# Altium footprint library Skyworks.PcbLib: 6 footprints
Each footprint in its own frame and in the unit in brackets; x right, y up, seen from the top. Pads: shape width x height; smd on the part's side, far side on the other; paste and mask are expansions set on the pad; w line width, h text height; cw(c..) or ccw(c..) is an arc to the next point about the centre after c.
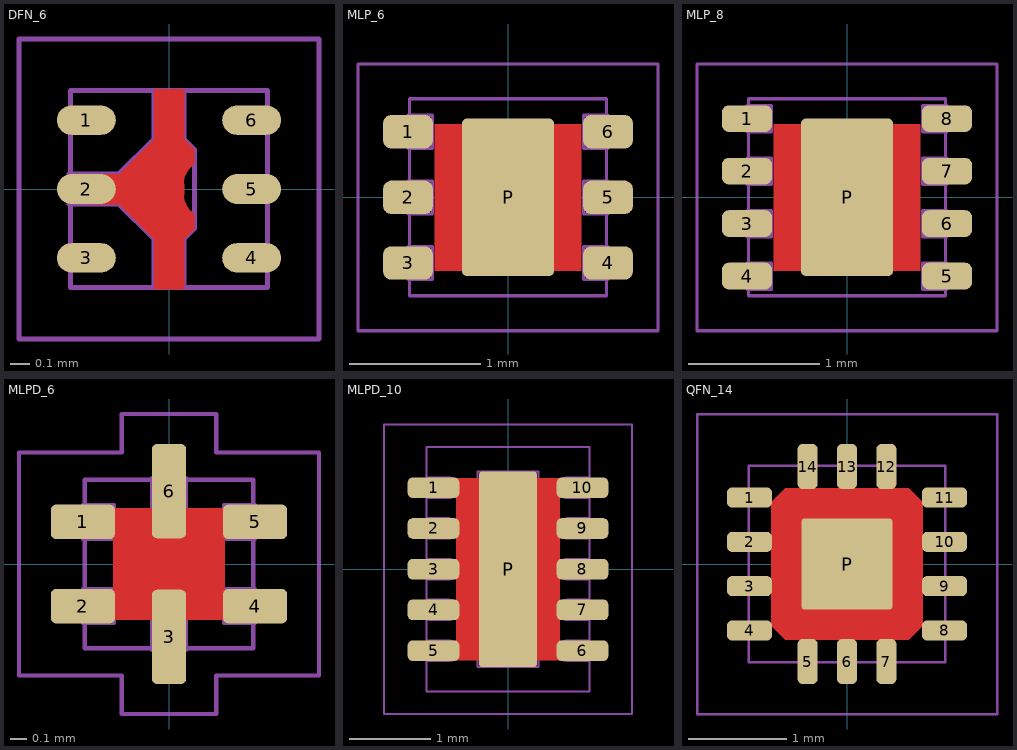
[diagram p0: the footprints below, top view; thin cyan lines are the x and y axes]

## DFN_6 [mm]
pads (6):
  oval 0.3x0.15 smd paste+0 mask+0.038: 1(-0.42,0.35) 3(-0.42,-0.35) 4(0.42,-0.35) 6(0.42,0.35)
  oval 0.3x0.152 smd paste+0 mask+0.038: 2(-0.42,0) 5(0.42,0)
Top Layer:
  region: 0.076,0.508 0.076,0.254 0.127,0.203 0.127,0.127 0.102,0.102 0.095,0.093 0.085,0.076 0.079,0.056 0.076,0.036 0.076,0.025 0.076,-0.025 0.076,-0.036 0.079,-0.056 0.085,-0.076 0.095,-0.093 0.102,-0.102 0.127,-0.127 0.127,-0.203 0.076,-0.254 0.076,-0.508 -0.076,-0.508 -0.076,-0.254 -0.254,-0.076 -0.406,-0.076 -0.406,0.076 -0.254,0.076 -0.076,0.254 -0.076,0.508
Top Solder:
  rectangle: -0.33,-0.457 0.33,0.457
  rectangle: -0.584,-0.406 0.584,0.406
Top Designator:
  text ".Designator" at -3.242,-0.317 h0.89
Top Courtyard:
  lines w0.025: -0.762,-0.762 -0.762,0.762 0.762,0.762 0.762,-0.762 -0.762,-0.762
Top Component Outline:
  lines w0.025: -0.508,-0.076 -0.254,-0.076 -0.075,-0.255 -0.075,-0.5 ; -0.508,0.076 -0.254,0.076 -0.075,0.255 -0.075,0.5 ; 0.076,-0.499 0.076,-0.255 0.13,-0.2 0.13,0.2 0.076,0.255 0.076,0.499 ; -0.5,-0.5 0.5,-0.5 0.5,0.5 -0.5,0.5 -0.5,-0.5
3D body: height 0.5, standoff 0, extent -0.5,-0.5 0.5,0.5
3D body: height 0.25, standoff 0, extent -0.508,-0.499 0.13,0.499
3D body: height 0.25, standoff 0, extent -0.508,-0.426 -0.254,-0.274
3D body: height 0.25, standoff 0, extent -0.508,0.274 -0.254,0.426
3D body: height 0.25, standoff 0, extent 0.254,-0.426 0.508,-0.274
3D body: height 0.25, standoff 0, extent 0.254,-0.076 0.508,0.076
3D body: height 0.25, standoff 0, extent 0.254,0.274 0.508,0.426

## MLP_6 [mil]
pads (7):
  rrect50% 15x10 smd mask+1.5: 1(-30,19.68) 2(-30,0) 3(-30,-19.68) 4(30,-19.68) 5(30,0) 6(30,19.68)
  rrect10% 27.56x47.24 smd paste-100 mask+1.5: P(0,0)
Top Layer:
  pour cut-out: -22,22 22,22 22,-22 -22,-22
Top Paste:
  rectangle: -13,-23 13,-4
  rectangle: -13,4 13,23
Top Solder:
  region: 0,34 7,45 -7,45
Top Designator:
  text ".Designator" at 12.5,-127.64 h35
Top Courtyard:
  lines w1: -45,-40 45,-40 45,40 -45,40 -45,-40
Top Component Outline:
  lines w1: -30,-24.61 -22.65,-24.61 -22.65,-14.76 -30,-14.76 -30,-24.61 ; -30,-4.92 -30,4.92 -22.65,4.92 -22.65,-4.92 -30,-4.92 ; -30,14.76 -22.65,14.76 -22.65,24.61 -30,24.61 -30,14.76 ; -29.53,-29.53 29.53,-29.53 29.53,29.53 -29.53,29.53 -29.53,-29.53 ; 22.65,-24.61 22.65,-14.76 30,-14.76 30,-24.61 22.65,-24.61 ; 22.65,-4.92 30,-4.92 30,4.92 22.65,4.92 22.65,-4.92 ; 22.65,14.76 22.65,24.61 30,24.61 30,14.76 22.65,14.76
3D body: height 17.72, standoff 0, extent -29.53,-29.53 29.53,29.53
3D body: height 10, standoff 0, extent -30,-4.92 -22.65,4.92
3D body: height 10, standoff 0, extent -30,-24.61 -22.65,-14.76
3D body: height 10, standoff 0, extent -30,14.76 -22.65,24.61
3D body: height 10, standoff 0, extent 22.65,-24.61 30,-14.76
3D body: height 10, standoff 0, extent 22.65,14.76 30,24.61
3D body: height 10, standoff 0, extent 22.65,-4.92 30,4.92

## MLP_8 [mil]
pads (9):
  rrect50% 15x8 smd mask+1.5: 1(-30,23.62) 2(-30,7.87) 3(-30,-7.87) 4(-30,-23.62) 5(30,-23.62) 6(30,-7.87) 7(30,7.87) 8(30,23.62)
  rrect10% 27.56x47.24 smd paste-100 mask+1.5: P(0,0)
Top Layer:
  pour cut-out: -22,22 22,22 22,-22 -22,-22
Top Paste:
  rectangle: -13,4 13,23
  rectangle: -13,-23 13,-4
Top Solder:
  region: 0,34 7,45 -7,45
Top Designator:
  text ".Designator" at 12.5,-127.64 h35
Top Courtyard:
  lines w1: -45,-40 45,-40 45,40 -45,40 -45,-40
Top Component Outline:
  lines w1: -30,-27.56 -30,-19.68 -22.65,-19.68 -22.65,-27.56 -30,-27.56 ; -30,-11.81 -30,-3.94 -22.65,-3.94 -22.65,-11.81 -30,-11.81 ; -30,3.94 -22.65,3.94 -22.65,11.81 -30,11.81 -30,3.94 ; -30,19.68 -30,27.56 -22.65,27.56 -22.65,19.68 -30,19.68 ; -29.53,-29.53 29.53,-29.53 29.53,29.53 -29.53,29.53 -29.53,-29.53 ; 22.65,-27.56 30,-27.56 30,-19.68 22.65,-19.68 22.65,-27.56 ; 22.65,-11.81 22.65,-3.94 30,-3.94 30,-11.81 22.65,-11.81 ; 22.65,3.94 30,3.94 30,11.81 22.65,11.81 22.65,3.94 ; 22.65,19.68 30,19.68 30,27.56 22.65,27.56 22.65,19.68
3D body: height 10, standoff 0, extent 22.65,-11.81 30,-3.94
3D body: height 10, standoff 0, extent 22.65,3.94 30,11.81
3D body: height 10, standoff 0, extent 22.65,19.68 30,27.56
3D body: height 10, standoff 0, extent 22.65,-27.56 30,-19.68
3D body: height 10, standoff 0, extent -30,19.68 -22.65,27.56
3D body: height 10, standoff 0, extent -30,-27.56 -22.65,-19.68
3D body: height 10, standoff 0, extent -30,-11.81 -22.65,-3.94
3D body: height 17.72, standoff 0, extent -29.53,-29.53 29.53,29.53
3D body: height 10, standoff 0, extent -30,3.94 -22.65,11.81

## MLPD_6 [mil]
pads (6):
  rrect30% 15x8 smd mask+1.5: 1(-20.09,9.84) 2(-20.09,-9.85) 4(20.08,-9.84) 5(20.08,9.84)
  rrect30% 8x22 smd mask+1.5: 3(0,-17) 6(0,17)
Top Layer:
  pour cut-out: -13,13 -13,-13 13,-13 13,13
Top Solder:
  region: -20,24 -13,35 -27,35
Top Designator:
  text ".Designator" at 12.5,-127.64 h35
Top Courtyard:
  lines w1: -35,-26 -11,-26 -11,-35 11,-35 11,-26 35,-26 35,26 11,26 11,35 -11,35 -11,26 -35,26 -35,-26
Top Component Outline:
  lines w1: -20.09,-13.79 -20.09,-5.91 -12.84,-5.91 -12.84,-13.79 -20.09,-13.79 ; -20.09,5.9 -20.09,13.77 -12.84,13.77 -12.84,5.9 -20.09,5.9 ; -19.68,-19.68 -19.68,19.68 19.68,19.68 19.68,-19.68 -19.68,-19.68 ; -3.94,-20.09 3.93,-20.09 3.93,-5.68 -3.94,-5.68 -3.94,-20.09 ; -3.94,5.67 -3.94,20.08 3.94,20.08 3.94,5.67 -3.94,5.67 ; 12.83,-13.78 20.08,-13.78 20.08,-5.91 12.83,-5.91 12.83,-13.78 ; 12.83,5.91 12.83,13.78 20.08,13.78 20.08,5.91 12.83,5.91
3D body: height 7.09, standoff 0, extent -3.94,-20.09 3.93,-5.68
3D body: height 7.09, standoff 0, extent -20.09,5.9 -12.84,13.77
3D body: height 7.09, standoff 0, extent -20.09,-13.79 -12.84,-5.91
3D body: height 7.09, standoff 0, extent 12.83,5.91 20.08,13.78
3D body: height 7.09, standoff 0, extent 12.83,-13.78 20.08,-5.91
3D body: height 7.09, standoff 0, extent -3.94,5.67 3.94,20.08
3D body: height 17.72, standoff 0, extent -19.68,-19.68 19.68,19.68

## MLPD_10 [mil]
pads (11):
  rrect50% 25x10 smd mask+2: 1(-36,39.37) 2(-36,19.68) 3(-36,0) 4(-36,-19.68) 5(-36,-39.37) 6(36,-39.37) 7(36,-19.68) 8(36,0) 9(36,19.68) 10(36,39.37)
  rrect10% 28x94.49 smd paste-100 mask+2: P(0,0)
Top Layer:
  pour cut-out: -25,44 -25,-44 25,-44 25,44
Top Paste:
  rectangle: -13,-14 13,14
  rectangle: -13,25 13,46
  rectangle: -13,-46 13,-25
Top Solder:
  rectangle: -15,-4 15,4
  region: 0,64 7,75 -7,75
Top Designator:
  text ".Designator" at 12.5,-127.64 h35
Top Courtyard:
  lines w1: -60,-70 60,-70 60,70 -60,70 -60,-70
Top Component Outline:
  lines w1: -39.37,-44.29 -28.54,-44.29 ccw(c-28.54,-39.37) -28.54,-34.45 -39.37,-34.45 ; -39.37,-24.61 -28.54,-24.61 ccw(c-28.54,-19.68) -28.54,-14.76 -39.37,-14.76 ; -39.37,-4.92 -28.54,-4.92 ccw(c-28.54,0) -28.54,4.92 -39.37,4.92 ; -39.37,14.76 -28.54,14.76 ccw(c-28.54,19.68) -28.54,24.61 -39.37,24.61 ; -39.37,34.45 -28.54,34.45 ccw(c-28.54,39.37) -28.54,44.29 -39.37,44.29 ; -23.62,-39.37 -14.76,-39.37 ; -23.62,-19.68 -14.76,-19.68 ; -23.62,0 -14.76,0 ; -23.62,19.68 -14.76,19.68 ; -23.62,39.37 -14.76,39.37 ; 14.76,-39.37 23.62,-39.37 ; 14.76,-19.68 23.62,-19.68 ; 14.76,0 23.62,0 ; 14.76,19.68 23.62,19.68 ; 14.76,39.37 23.62,39.37 ; 39.37,-44.29 28.54,-44.29 cw(c28.54,-39.37) 28.54,-34.45 39.37,-34.45 ; 39.37,-24.61 28.54,-24.61 cw(c28.54,-19.68) 28.54,-14.76 39.37,-14.76 ; 39.37,-4.92 28.54,-4.92 cw(c28.54,0) 28.54,4.92 39.37,4.92 ; 39.37,14.76 28.54,14.76 cw(c28.54,19.68) 28.54,24.61 39.37,24.61 ; 39.37,34.45 28.54,34.45 cw(c28.54,39.37) 28.54,44.29 39.37,44.29 ; -39.37,-59.06 39.37,-59.06 39.37,59.06 -39.37,59.06 -39.37,-59.06 ; -14.76,-47.24 -14.76,47.24 14.76,47.24 14.76,-47.24 -14.76,-47.24
3D body: height 10, standoff 0, extent -40.37,34.45 -29.54,44.29
3D body: height 10, standoff 0, extent -40.37,14.76 -29.54,24.61
3D body: height 10, standoff 0, extent -40.37,-4.92 -29.54,4.92
3D body: height 10, standoff 0, extent -40.37,-44.29 -29.54,-34.45
3D body: height 10, standoff 0, extent -40.37,-24.61 -29.54,-14.76
3D body: height 10, standoff 0, extent 29.54,-44.29 40.37,-34.45
3D body: height 10, standoff 0, extent 29.54,-24.61 40.37,-14.76
3D body: height 10, standoff 0, extent 29.54,34.45 40.37,44.29
3D body: height 10, standoff 0, extent 29.54,14.76 40.37,24.61
3D body: height 17.72, standoff 0, extent -39.37,-59.06 39.37,59.06
3D body: height 10, standoff 0, extent 29.54,-4.92 40.37,4.92

## QFN_14 [mil]
pads (15):
  rrect50% 18x8 smd mask+1.5: 1(-39,26.57) 2(-39,8.86) 3(-39,-8.86) 4(-39,-26.57) 8(39,-26.57) 9(39,-8.86) 10(39,8.86) 11(39,26.57)
  rrect50% 8x18 smd mask+1.5: 5(-15.75,-39) 6(0,-39) 7(15.75,-39) 12(15.75,39) 13(0,39) 14(-15.75,39)
  rrect5% 36.22x36.22 smd paste-100 mask+1.5: P(0,0)
Top Layer:
  pour cut-out: -24.68,30.37 24.69,30.37 30.37,24.68 30.37,-24.69 24.68,-30.37 -24.69,-30.37 -30.37,-24.68 -30.37,24.69
Top Paste:
  region: -3,3 -3,18 -14,18 -18,14 -18,3
  region: -3,-3 -18,-3 -18,-14 -14,-18 -3,-18
  region: 3,-3 3,-18 14,-18 18,-14 18,-3
  region: 3,3 18,3 18,14 14,18 3,18
Top Solder:
  region: -33.59,43.64 -36.41,56.36 -46.31,46.46
Top Designator:
  text ".Designator" at -127.64,-12.5 h35
Top Courtyard:
  lines w1: -60,-60 60,-60 60,60 -60,60 -60,-60
Top Component Outline:
  lines w1: -39.37,-39.37 39.37,-39.37 39.37,39.37 -39.37,39.37 -39.37,-39.37
3D body: height 10, standoff 0, extent -40.37,-31.57 -30.37,-21.57
3D body: height 10, standoff 0, extent 30.37,-31.57 40.37,-21.57
3D body: height 10, standoff 0, extent -20.75,30.37 -10.75,40.37
3D body: height 10, standoff 0, extent -5,30.37 5,40.37
3D body: height 10, standoff 0, extent 10.75,30.37 20.75,40.37
3D body: height 10, standoff 0, extent 30.37,21.57 40.37,31.57
3D body: height 10, standoff 0, extent 30.37,3.86 40.37,13.86
3D body: height 10, standoff 0, extent 30.37,-13.86 40.37,-3.86
3D body: height 10, standoff 0, extent -40.37,21.57 -30.37,31.57
3D body: height 10, standoff 0, extent -40.37,3.86 -30.37,13.86
3D body: height 10, standoff 0, extent -40.37,-13.86 -30.37,-3.86
3D body: height 10, standoff 0, extent -20.75,-40.37 -10.75,-30.37
3D body: height 10, standoff 0, extent -5,-40.37 5,-30.37
3D body: height 10, standoff 0, extent 10.75,-40.37 20.75,-30.37
3D body: height 21, standoff 0, extent -39.37,-39.37 39.37,39.37